# Altium footprint library CAPPRD500W62D1025H1400.PcbLib: 1 footprints
Each footprint in its own frame and in the unit in brackets; x right, y up, seen from the top. Pads: shape width x height; smd on the part's side, far side on the other; paste and mask are expansions set on the pad; w line width, h text height; cw(c..) or ccw(c..) is an arc to the next point about the centre after c.
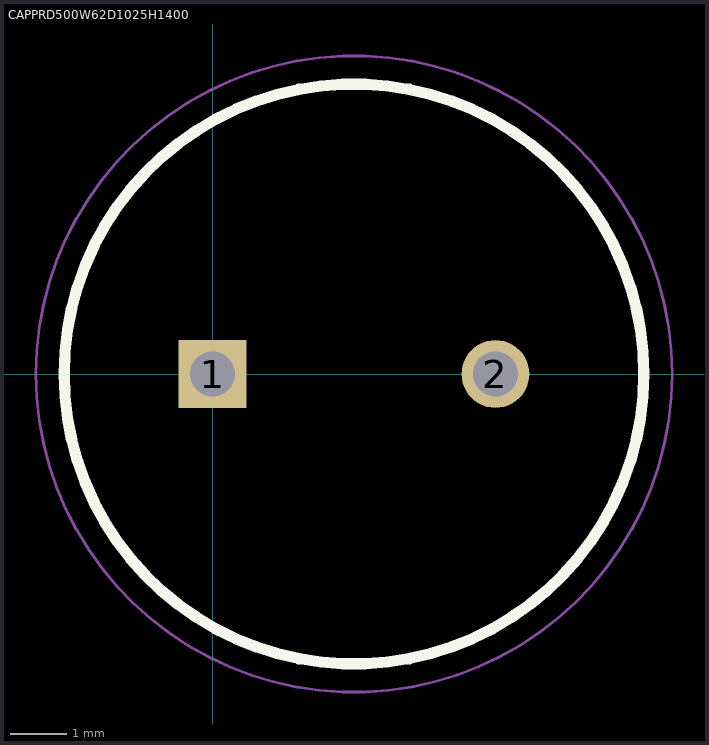
[diagram p0: the footprint, top view; thin cyan lines are the x and y axes]

## CAPPRD500W62D1025H1400 [mm]
pads (2):
  rect 1.2x1.2 / inner round 1.2 / far side rect 1.2x1.2 hole 0.8: 1(0,0)
  round 1.2 hole 0.8: 2(5,0)
Top Overlay:
  circle w0.2: c2.5,0 r5.125
Mechanical 15:
  circle w0.1: c2.5,0 r5.125
Mechanical 20:
  circle w0.05: c2.5,0 r5.625
3D body "MCGPR200V106M10X13.stp": height 5.8, standoff -4.65, extent -10,-3.376 10,3.376